# EAGLE library part MMA8653FCR1 (library AccelTestJig)
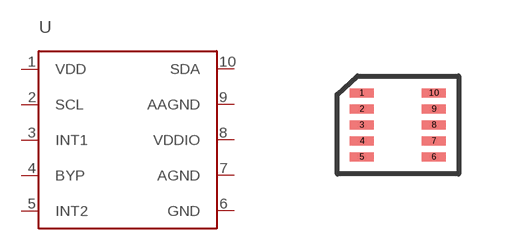
[diagram p0: symbol with the pads of MMA8653FCR1; footprint MMA8653FCR1]

Designator prefix -

## MMA8653FCR1  [MMA8653FCR1]
1  VDD
2  SCL
3  INT1
4  BYP
5  INT2
6  GND
7  AGND
8  VDDIO
9  AAGND
10  SDA

## Footprint MMA8653FCR1 (pad centres in mm)
smd 0.6 x 0.225: 1 -0.9,0.8; 2 -0.9,0.4; 3 -0.9,0; 4 -0.9,-0.4; 5 -0.9,-0.8; 6 0.9,-0.8; 7 0.9,-0.4; 8 0.9,0; 9 0.9,0.4; 10 0.9,0.8